# Altium schematic symbol library LSM9DSx.SchLib: 2 symbols
Pins are listed as number, name and electrical type; pins without a type are passive.

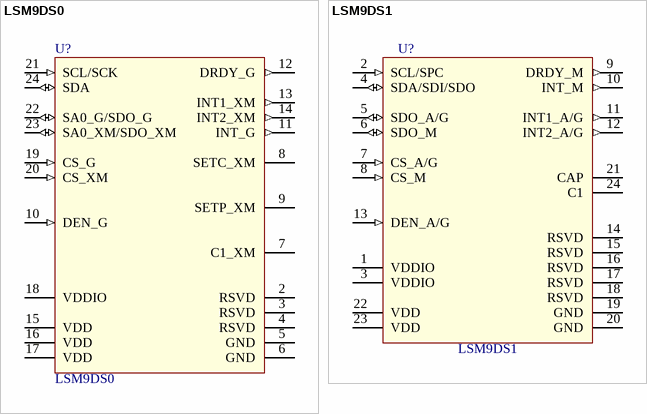
[diagram p0: symbols LSM9DS0 to LSM9DS1]

## LSM9DS0
designator U?
3D accelerometer, 3D gyroscope, 3D magnetometer; value: LSM9DS0
pins: 2 RSVD, 3 RSVD, 4 RSVD, 5 GND (power), 6 GND (power), 7 C1_XM, 8 SETC_XM, 9 SETP_XM, 10 DEN_G (in), 11 INT_G (out), 12 DRDY_G (out), 13 INT1_XM (out), 14 INT2_XM (out), 15 VDD (power), 16 VDD (power), 17 VDD (power), 18 VDDIO, 19 CS_G (in), 20 CS_XM (in), 21 SCL/SCK (in), 22 SA0_G/SDO_G (io), 23 SA0_XM/SDO_XM (io), 24 SDA (io)

## LSM9DS1
designator U?
3D accelerometer, 3D gyroscope, 3D magnetometer; value: LSM9DS1
pins: 1 VDDIO (power), 2 SCL/SPC (in), 3 VDDIO (power), 4 SDA/SDI/SDO (io), 5 SDO_A/G (io), 6 SDO_M (io), 7 CS_A/G (in), 8 CS_M (in), 9 DRDY_M (out), 10  INT_M (out), 11  INT1_A/G (out), 12 INT2_A/G (out), 13 DEN_A/G (in), 14 RSVD, 15 RSVD, 16 RSVD, 17 RSVD, 18 RSVD, 19 GND (power), 20 GND (power), 21 CAP, 22 VDD (power), 23 VDD (power), 24 C1